# Altium footprint library IP5389_AABC_DEMO_V1.2.PcbLib: 26 footprints (part 2 of 2)
Each footprint in its own frame and in the unit in brackets; x right, y up, seen from the top. Pads: shape width x height; smd on the part's side, far side on the other; paste and mask are expansions set on the pad; w line width, h text height; cw(c..) or ccw(c..) is an arc to the next point about the centre after c.
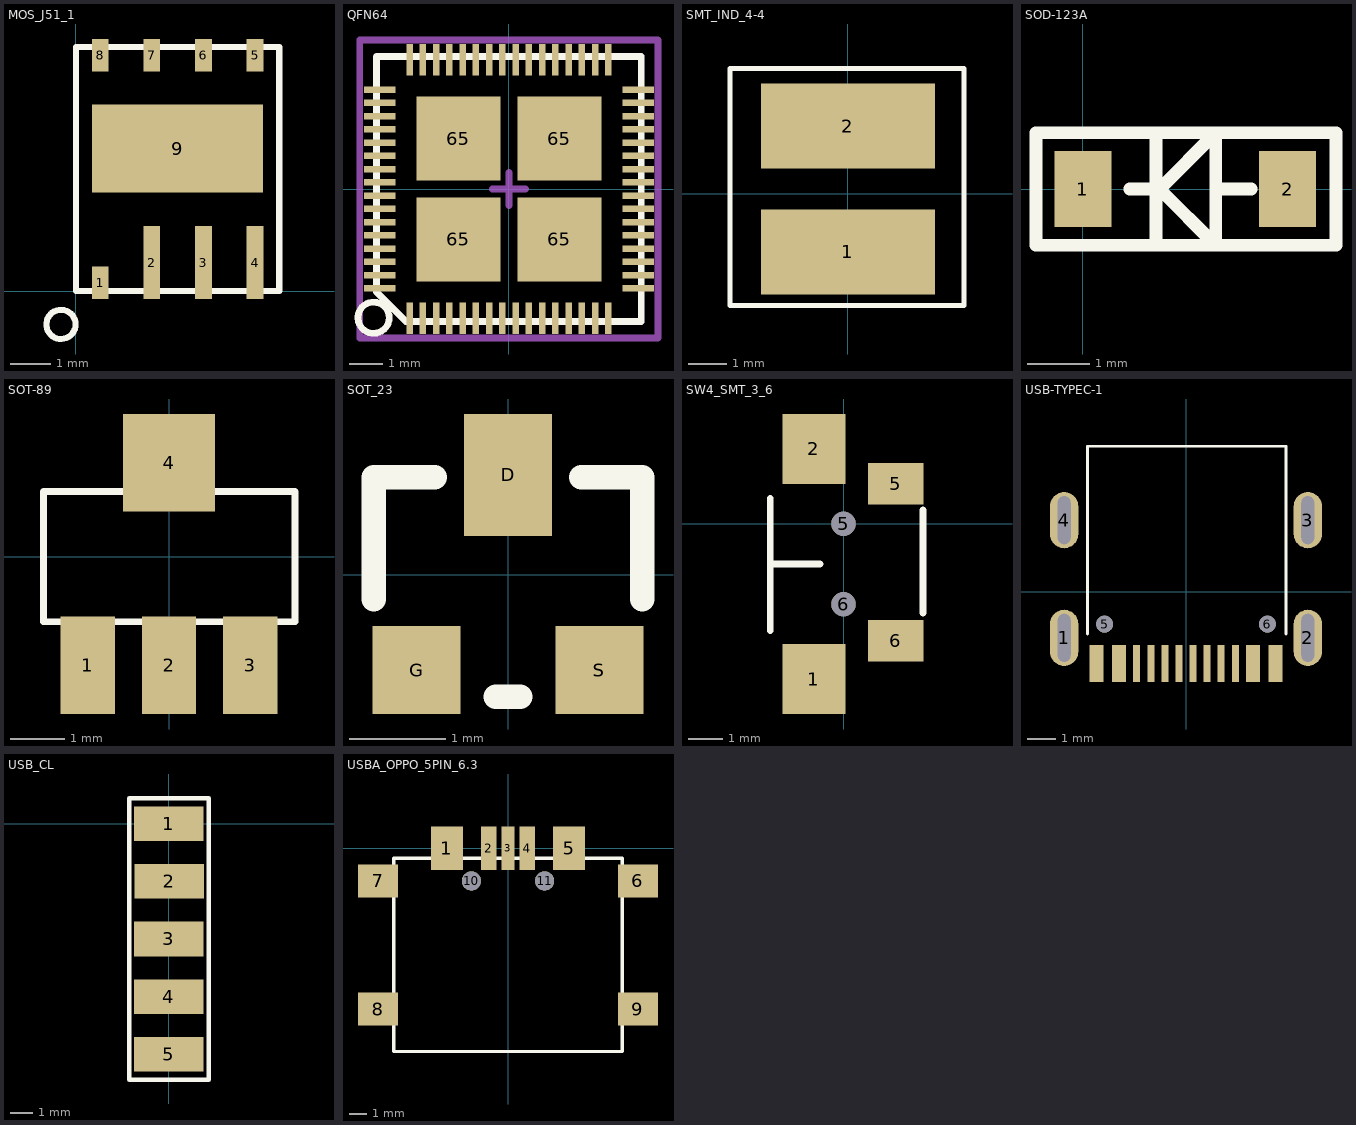
[diagram p1: the footprints below, top view; thin cyan lines are the x and y axes]

## MOS_J51_1 [mm]
pads (9):
  rect 0.41x0.8 smd: 1(0.595,0.2) 5(4.405,5.8) 6(3.135,5.8) 7(1.865,5.8) 8(0.595,5.8)
  rect 0.41x1.8 smd: 2(1.865,0.7) 3(3.135,0.7) 4(4.405,0.7)
  rect 4.2x2.17 smd: 9(2.5,3.505)
Top Overlay:
  circle w0.15: c-0.37,-0.82 r0.359
  lines w0.15: 0,0 5,0 5,6 0,6 0,0

## QFN64 [mm]
height 0.2
pads (68):
  rect 0.2x0.95 smd: 1(-3,-3.9) 2(-2.6,-3.9) 3(-2.2,-3.9) 4(-1.8,-3.9) 5(-1.4,-3.9) 6(-1,-3.9) 7(-0.6,-3.9) 8(-0.2,-3.9) 9(0.2,-3.9) 10(0.6,-3.9) 11(1,-3.9) 12(1.4,-3.9) 13(1.8,-3.9) 14(2.2,-3.9) 15(2.6,-3.9) 16(3,-3.9) 33(3,3.9) 34(2.6,3.9) 35(2.2,3.9) 36(1.8,3.9) 37(1.4,3.9) 38(1,3.9) 39(0.6,3.9) 40(0.2,3.9) 41(-0.2,3.9) 42(-0.6,3.9) 43(-1,3.9) 44(-1.4,3.9) 45(-1.8,3.9) 46(-2.2,3.9) 47(-2.6,3.9) 48(-3,3.9)
  rect 0.95x0.2 smd: 17(3.9,-3) 18(3.9,-2.6) 19(3.9,-2.2) 20(3.9,-1.8) 21(3.9,-1.4) 22(3.9,-1) 23(3.9,-0.6) 24(3.9,-0.2) 25(3.9,0.2) 26(3.9,0.6) 27(3.9,1) 28(3.9,1.4) 29(3.9,1.8) 30(3.9,2.2) 31(3.9,2.6) 32(3.9,3) 49(-3.9,3) 50(-3.9,2.6) 51(-3.9,2.2) 52(-3.9,1.8) 53(-3.9,1.4) 54(-3.9,1) 55(-3.9,0.6) 56(-3.9,0.2) 57(-3.9,-0.2) 58(-3.9,-0.6) 59(-3.9,-1) 60(-3.9,-1.4) 61(-3.9,-1.8) 62(-3.9,-2.2) 63(-3.9,-2.6) 64(-3.9,-3)
  rrect0% 2.54x2.54 smd: 65(-1.524,-1.524) 65(-1.524,1.524) 65(1.524,-1.524) 65(1.524,1.524)
Top Overlay:
  circle w0.2: c-4.086,-3.886 r0.471
  lines w0.2: -4,-3.11 -3.11,-4 4,-4 4,4 -4,4 -4,-3.11
Mechanical118:
  lines w0.2: -0.5,0 0,0 ; 0,-0.5 0,0 ; 0,0.5 0,0 ; 0.5,0 0,0 ; -4.5,-4.5 4.5,-4.5 4.5,4.5 -4.5,4.5 -4.5,-4.5

## SMT_IND_4-4 [mm]
pads (2):
  rect 4.5x2.2 smd: 1(0,-1.5) 2(0,1.75)
Top Overlay:
  lines w0.127: -3.05,-2.88 -3.05,3.24 3,3.24 3,-2.88 -3.05,-2.88

## SOD-123A [mil]
pads (2):
  rect 36x48 smd: 1(0,0) 2(129,0)
Top Overlay:
  lines w8: 29.61,0 48.31,0 83.74,-35.43 83.74,35.43 48.15,-0.15 ; 46,-35.43 46,35.43 ; 84,0 106,0 ; -29.53,-35.43 -29.53,35.43 159.45,35.43 159.45,-35.43 -29.53,-35.43

## SOT-89 [mm]
pads (4):
  rect 1x1.8 smd: 1(-1.5,-2) 2(0,-2) 3(1.5,-2)
  rect 1.7x1.8 smd: 4(0,1.73)
Top Overlay:
  lines w0.127: -2.31,-1.2 -2.31,1.2 2.32,1.2 2.32,-1.2 -2.31,-1.2
Top Assembly:
  text "U11" at -4.267,-0.432 h0.64

## SOT_23 [mil]
pads (3):
  rect 36x50 smd: D(0,41)
  rect 36x36 smd: G(-37.5,-39) S(37.5,-39)
Top Overlay:
  lines w10: -55,-10 -55,40 -30,40 ; -5,-50 5,-50 ; 30,40 55,40 55,-10

## SW4_SMT_3_6 [mm]
pads (6):
  rect 1.8x2 smd: 1(-0.85,-4.45) 2(-0.85,2.15)
  round 0.7 on Top hole 0.7: 5(0,0) 6(0,-2.3)
  rect 1.6x1.2 smd: 5(1.5,1.15) 6(1.5,-3.35)
Top Overlay:
  lines w0.2: -2.1,-3.05 -2.1,0.725 ; -2.1,-1.15 -0.675,-1.15 ; 2.275,-2.55 2.275,0.4

## USB-TYPEC-1 [mm]
pads (22):
  oval 1x2 hole 0.45 slot 1.7 at 90 deg: 1(-4.325,-1.635) 2(4.325,-1.635) 3(4.325,2.545) 4(-4.325,2.545)
  round 0.6 hole 0.6: 5(-2.89,-1.148) 6(2.887,-1.148)
  rect 0.25x1.3 smd: A1(3.3,-2.545) A4(2.5,-2.545) A5(1.25,-2.545) A6(0.25,-2.545) A7(-0.25,-2.545) A8(-1.25,-2.545) A9(-2.5,-2.545) A12(-3.3,-2.545) B1(-3.05,-2.545) B4(-2.25,-2.545) B5(-1.75,-2.545) B6(-0.75,-2.545) B7(0.75,-2.545) B8(1.75,-2.545) B9(2.25,-2.545) B12(3.05,-2.545)
Top Overlay:
  lines w0.1: -3.5,-1.495 -3.5,5.17 3.55,5.17 3.55,-1.495

## USB_CL [mil]
height 50
pads (5):
  rect 120x60 smd paste-30 mask-30: 1(0,0) 2(0.86,-100) 3(0,-200) 4(0,-300) 5(0,-400)
Top Overlay:
  lines w7.87: -68.51,-443.78 -68.51,43.78 69.04,43.78 69.04,-443.78 -68.51,-443.78

## USBA_OPPO_5PIN_6.3 [mm]
pads (11):
  rect 1.85x2.5 smd: 1(-3.5,0) 5(3.5,0)
  rect 0.9x2.5 smd: 2(-1.1,0) 4(1.1,0)
  rect 0.75x2.5 smd: 3(0,0)
  rect 2.3x1.9 smd: 6(7.45,-1.87) 7(-7.45,-1.87) 8(-7.45,-9.22) 9(7.45,-9.22)
  round 1.1 hole 1.1: 10(-2.1,-1.87) 11(2.1,-1.87)
Top Overlay:
  lines w0.2: -6.55,-11.65 6.55,-11.65 6.55,-0.57 -6.55,-0.57 -6.55,-11.65